# Altium footprint library Power_Inductor.PcbLib: 13 footprints
Each footprint in its own frame and in the unit in brackets; x right, y up, seen from the top. Pads: shape width x height; smd on the part's side, far side on the other; paste and mask are expansions set on the pad; w line width, h text height; cw(c..) or ccw(c..) is an arc to the next point about the centre after c.
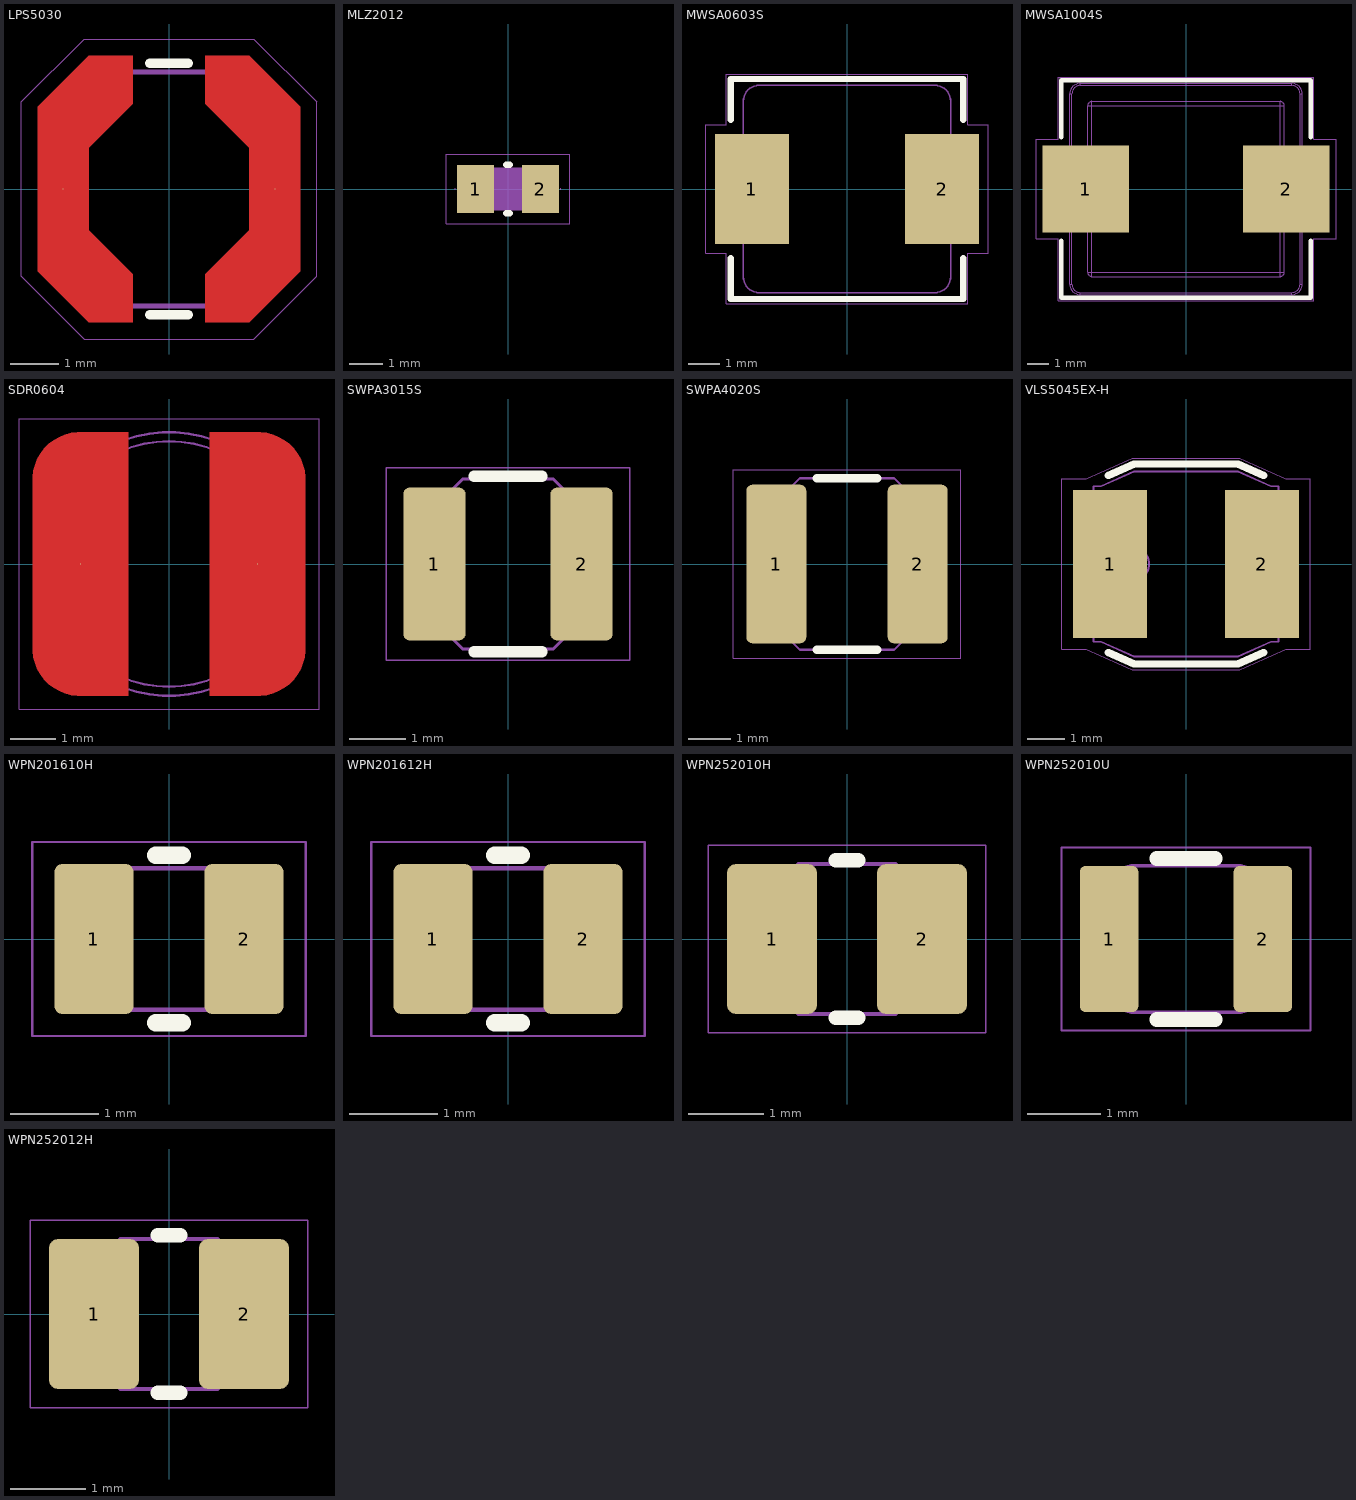
[diagram p0: the footprints below, top view; thin cyan lines are the x and y axes]

## LPS5030 [mil]
height 118.11
pads (2):
  round 1 smd paste-196.85 mask+3.94: 1(-86.22,0) 2(86.22,0)
Top Layer:
  region: -106.69,-66.93 -65.35,-108.27 -29.53,-108.27 -29.53,-69.29 -65.35,-33.46 -65.35,33.46 -29.53,69.29 -29.53,108.27 -65.35,108.27 -106.69,66.93
  region: 106.69,-66.93 65.35,-108.27 29.53,-108.27 29.53,-69.29 65.35,-33.46 65.35,33.46 29.53,69.29 29.53,108.27 65.35,108.27 106.69,66.93
Top Overlay:
  lines w7.87: -15.75,-102.36 15.75,-102.36 ; -15.75,102.36 15.75,102.36
Top Paste:
  rectangle: -104.33,-25.59 -68.9,25.59
  region: 104.33,25.59 68.9,25.59 68.9,-25.59 104.33,-25.59
  region: -66.93,35.43 -104.33,35.43 -104.33,66.93 -85.63,85.63 -51.18,51.18
  region: -78.74,92.52 -64.96,106.3 -31.5,106.3 -31.5,70.87 -44.29,58.07
  region: -66.93,-35.43 -104.33,-35.43 -104.33,-66.93 -85.63,-85.63 -51.18,-51.18
  region: -78.74,-92.52 -64.96,-106.3 -31.5,-106.3 -31.5,-70.87 -44.29,-58.07
  region: 66.93,35.43 104.33,35.43 104.33,66.93 85.63,85.63 51.18,51.18
  region: 78.74,92.52 64.96,106.3 31.5,106.3 31.5,70.87 44.29,58.07
  region: 66.93,-35.43 104.33,-35.43 104.33,-66.93 85.63,-85.63 51.18,-51.18
  region: 78.74,-92.52 64.96,-106.3 31.5,-106.3 31.5,-70.87 44.29,-58.07
Top Courtyard:
  lines w0.98: -120.08,-70.87 -120.08,70.87 -68.9,122.05 68.9,122.05 120.08,70.87 120.08,-70.87 68.9,-122.05 -68.9,-122.05 -120.08,-70.87
Top Assembly:
  lines w1.97: -96.06,-66.54 -66.54,-96.06 66.54,-96.06 96.06,-66.54 96.06,66.54 66.54,96.06 -66.54,96.06 -96.06,66.54 -96.06,-66.54 ; -94.09,-65.72 -65.72,-94.09 65.72,-94.09 94.09,-65.72 94.09,65.72 65.72,94.09 -65.72,94.09 -94.09,65.72 -94.09,-65.72 ; -74.82,-5.91 cw(c-74.82,0) -74.82,5.91 cw(c-74.82,0) -74.82,-5.91
  text ".Designator" at -133.01,-13.35 h59.06
3D body "Coilcraft-LPS5030.x_t": height 119.29, standoff 1.18, extent -96.06,-96.06 96.06,96.06

## MLZ2012 [mm] "Chip Inductor MLZ2012series"
height 0.85
pads (2):
  rect 1.11x1.45 smd: 1(-0.975,0) 2(0.975,0)
Top Overlay:
  lines w0.2: -0.05,-0.725 0.05,-0.725 ; -0.05,0.725 0.05,0.725
Top Courtyard:
  lines w0.025: -1.85,-1.05 1.85,-1.05 1.85,1.05 -1.85,1.05 -1.85,-1.05
Top Assembly:
  lines w0.01: -1.59,-0.025 -1.59,0.025 ; 1.59,-0.025 1.59,0.025
  lines w0.05: -0.6,-0.625 ccw(c-2.503,0) -0.6,0.625 ; -0.554,-0.624 0.554,-0.624 ; -0.554,0.624 0.554,0.624 ; -0.55,-0.625 -0.55,-0.475 ; -0.55,0.475 -0.55,0.625 ; -0.45,-0.625 -0.45,0.625 ; -0.4,-0.625 -0.4,0.625 ; -0.35,-0.625 -0.35,0.625 ; -0.3,-0.625 -0.3,0.625 ; -0.25,-0.625 -0.25,0.625 ; -0.2,-0.625 -0.2,0.625 ; -0.15,-0.625 -0.15,0.625 ; -0.1,-0.625 -0.1,0.625 ; -0.05,-0.625 -0.05,0.625 ; 0,-0.625 0,0.625 ; 0.05,-0.625 0.05,0.625 ; 0.1,-0.625 0.1,0.625 ; 0.15,-0.625 0.15,0.625 ; 0.2,-0.625 0.2,0.625 ; 0.25,-0.625 0.25,0.625 ; 0.3,-0.625 0.3,0.625 ; 0.35,-0.625 0.35,0.625 ; 0.4,-0.625 0.4,0.625 ; 0.45,-0.625 0.45,0.625 ; 0.55,-0.625 0.55,-0.475 ; 0.55,0.475 0.55,0.625 ; 0.6,-0.625 cw(c2.503,0) 0.6,0.625 ; -1,-0.525 ccw(c-0.9,-0.525) -0.9,-0.625 -0.5,-0.625 -0.5,0.625 -0.9,0.625 ccw(c-0.9,0.525) -1,0.525 -1,-0.525 ; 0.5,-0.625 0.5,0.625 0.9,0.625 cw(c0.9,0.525) 1,0.525 1,-0.525 cw(c0.9,-0.525) 0.9,-0.625 0.5,-0.625
  text ".Designator" at -2.252,1.174 h1
3D body "MLZ2012.x_t": height 0.85, standoff 0, extent -1,-0.625 1,0.625

## MWSA0603S [mm]
pads (2):
  rect 2.35x3.5 smd paste-5: 1(-3.025,0) 2(3.025,0)
Top Overlay:
  lines w0.2: -3.7,-2.2 -3.7,-3.5 3.7,-3.5 3.7,-2.2 ; -3.7,2.2 -3.7,3.5 3.7,3.5 3.7,2.2
Top Paste:
  rectangle: 3.55,-1.7 4.15,-0.9
  rectangle: 2.75,-1.7 3.35,-0.9
  rectangle: 1.95,-1.7 2.55,-0.9
  region: 2.55,-0.7 2.55,-0.1 1.95,-0.1 1.95,-0.7
  region: 3.35,-0.7 3.35,-0.1 2.75,-0.1 2.75,-0.7
  region: 4.15,-0.7 4.15,-0.1 3.55,-0.1 3.55,-0.7
  region: 2.55,0.1 2.55,0.7 1.95,0.7 1.95,0.1
  region: 3.35,0.1 3.35,0.7 2.75,0.7 2.75,0.1
  region: 4.15,0.1 4.15,0.7 3.55,0.7 3.55,0.1
  region: 2.55,1.7 1.95,1.7 1.95,0.9 2.55,0.9
  region: 3.35,1.7 2.75,1.7 2.75,0.9 3.35,0.9
  region: 4.15,1.7 3.55,1.7 3.55,0.9 4.15,0.9
  region: -3.55,-0.9 -4.15,-0.9 -4.15,-1.7 -3.55,-1.7
  region: -2.75,-0.9 -3.35,-0.9 -3.35,-1.7 -2.75,-1.7
  region: -1.95,-0.9 -2.55,-0.9 -2.55,-1.7 -1.95,-1.7
  region: -1.95,-0.7 -1.95,-0.1 -2.55,-0.1 -2.55,-0.7
  region: -2.75,-0.7 -2.75,-0.1 -3.35,-0.1 -3.35,-0.7
  region: -3.55,-0.7 -3.55,-0.1 -4.15,-0.1 -4.15,-0.7
  region: -1.95,0.1 -1.95,0.7 -2.55,0.7 -2.55,0.1
  region: -2.75,0.1 -2.75,0.7 -3.35,0.7 -3.35,0.1
  region: -3.55,0.1 -3.55,0.7 -4.15,0.7 -4.15,0.1
  rectangle: -2.55,0.9 -1.95,1.7
  rectangle: -3.35,0.9 -2.75,1.7
  rectangle: -4.15,0.9 -3.55,1.7
Top Courtyard:
  lines w0.025: -4.5,-2.05 -3.85,-2.05 -3.85,-3.65 3.85,-3.65 3.85,-2.05 4.5,-2.05 4.5,2.05 3.85,2.05 3.85,3.65 -3.85,3.65 -3.85,2.05 -4.5,2.05 -4.5,-2.05
Top Assembly:
  lines w0.05: -3.3,-1.5 -3.5,-1.5 -3.5,-1.4 ; -3.3,-1.4 -3.5,-1.4 ; -3.3,-0.7 -3.5,-0.7 ; -3.3,-0.6 -3.5,-0.6 ; -3.3,-0.5 -3.5,-0.5 ; -3.3,0.5 -3.5,0.5 ; -3.3,0.6 -3.5,0.6 ; -3.3,0.7 -3.5,0.7 ; -3.3,1.4 -3.5,1.4 ; -3.3,1.5 -3.5,1.5 -3.5,1.4 ; 3.3,-1.5 3.5,-1.5 3.5,-1.4 ; 3.3,-1.4 3.5,-1.4 ; 3.3,-0.7 3.5,-0.7 ; 3.3,-0.6 3.5,-0.6 ; 3.3,-0.5 3.5,-0.5 ; 3.3,0.5 3.5,0.5 ; 3.3,0.6 3.5,0.6 ; 3.3,0.7 3.5,0.7 ; 3.3,1.4 3.5,1.4 ; 3.3,1.5 3.5,1.5 3.5,1.4 ; -3.5,-1.4 -3.5,-0.7 ; -3.5,-0.7 -3.5,-0.6 ; -3.5,-0.6 -3.5,-0.5 ; -3.5,-0.5 -3.5,0.5 ; -3.5,0.5 -3.5,0.6 ; -3.5,0.6 -3.5,0.7 ; -3.5,0.7 -3.5,1.4 ; 3.5,-1.4 3.5,-0.7 ; 3.5,-0.7 3.5,-0.6 ; 3.5,-0.6 3.5,-0.5 ; 3.5,-0.5 3.5,0.5 ; 3.5,0.5 3.5,0.6 ; 3.5,0.6 3.5,0.7 ; 3.5,0.7 3.5,1.4 ; -3.3,-2.8 ccw(c-2.8,-2.8) -2.8,-3.3 2.8,-3.3 ccw(c2.8,-2.8) 3.3,-2.8 3.3,2.8 ccw(c2.8,2.8) 2.8,3.3 -2.8,3.3 ccw(c-2.8,2.8) -3.3,2.8 -3.3,-2.8
  text ".Designator" at -4.511,-0.453 h2
3D body "MWSA0603S-R56MT.x_t": height 2.9, standoff 0, extent -3.5,-3.3 3.5,3.3

## MWSA1004S [mm]
pads (2):
  rect 4.1x4.1 smd paste-5: 1(-4.75,0) 2(4.75,0)
Top Overlay:
  lines w0.2: -5.9,-2.45 -5.9,-5.15 5.9,-5.15 5.9,-2.45 ; -5.9,2.45 -5.9,5.15 5.9,5.15 5.9,2.45
Top Paste:
  region: 3.65,-1.9 3.65,-1.1 2.85,-1.1 2.85,-1.9
  region: 4.65,-1.9 4.65,-1.1 3.85,-1.1 3.85,-1.9
  region: 5.65,-1.9 5.65,-1.1 4.85,-1.1 4.85,-1.9
  region: 6.65,-1.9 6.65,-1.1 5.85,-1.1 5.85,-1.9
  region: 3.65,-0.9 3.65,-0.1 2.85,-0.1 2.85,-0.9
  region: 4.65,-0.9 4.65,-0.1 3.85,-0.1 3.85,-0.9
  region: 5.65,-0.9 5.65,-0.1 4.85,-0.1 4.85,-0.9
  region: 6.65,-0.9 6.65,-0.1 5.85,-0.1 5.85,-0.9
  region: 3.65,0.1 3.65,0.9 2.85,0.9 2.85,0.1
  region: 4.65,0.1 4.65,0.9 3.85,0.9 3.85,0.1
  region: 5.65,0.1 5.65,0.9 4.85,0.9 4.85,0.1
  region: 6.65,0.1 6.65,0.9 5.85,0.9 5.85,0.1
  region: 3.65,1.1 3.65,1.9 2.85,1.9 2.85,1.1
  region: 4.65,1.1 4.65,1.9 3.85,1.9 3.85,1.1
  region: 5.65,1.1 5.65,1.9 4.85,1.9 4.85,1.1
  region: 6.65,1.1 6.65,1.9 5.85,1.9 5.85,1.1
  region: -2.85,-1.9 -2.85,-1.1 -3.65,-1.1 -3.65,-1.9
  region: -3.85,-1.9 -3.85,-1.1 -4.65,-1.1 -4.65,-1.9
  region: -4.85,-1.9 -4.85,-1.1 -5.65,-1.1 -5.65,-1.9
  region: -5.85,-1.9 -5.85,-1.1 -6.65,-1.1 -6.65,-1.9
  region: -2.85,-0.9 -2.85,-0.1 -3.65,-0.1 -3.65,-0.9
  region: -3.85,-0.9 -3.85,-0.1 -4.65,-0.1 -4.65,-0.9
  region: -4.85,-0.9 -4.85,-0.1 -5.65,-0.1 -5.65,-0.9
  region: -5.85,-0.9 -5.85,-0.1 -6.65,-0.1 -6.65,-0.9
  region: -2.85,0.1 -2.85,0.9 -3.65,0.9 -3.65,0.1
  region: -3.85,0.1 -3.85,0.9 -4.65,0.9 -4.65,0.1
  region: -4.85,0.1 -4.85,0.9 -5.65,0.9 -5.65,0.1
  region: -5.85,0.1 -5.85,0.9 -6.65,0.9 -6.65,0.1
  region: -2.85,1.1 -2.85,1.9 -3.65,1.9 -3.65,1.1
  region: -3.85,1.1 -3.85,1.9 -4.65,1.9 -4.65,1.1
  region: -4.85,1.1 -4.85,1.9 -5.65,1.9 -5.65,1.1
  region: -5.85,1.1 -5.85,1.9 -6.65,1.9 -6.65,1.1
Top Courtyard:
  lines w0.025: -7.1,-2.35 -7.1,2.35 -6.05,2.35 -6.05,5.3 6.05,5.3 6.05,2.35 7.1,2.35 7.1,-2.35 6.05,-2.35 6.05,-5.3 -6.05,-5.3 -6.05,-2.35 -7.1,-2.35
Top Assembly:
  lines w0.05: -5.5,-1.5 -5.75,-1.5 -5.75,1.5 -5.5,1.5 ; 5.5,-1.5 5.75,-1.5 5.75,1.5 5.5,1.5 ; -5.5,-4.5 ccw(c-5,-4.5) -5,-5 ; -5.5,-4.5 -5.4,-4.5 ; -5.5,-4.5 -5.5,4.5 ; -5.5,4.5 cw(c-5,4.5) -5,5 ; -5.5,4.5 -5.4,4.5 ; -5.4,-4.5 ccw(c-5,-4.5) -5,-4.9 ; -5.4,-4.5 -5.4,4.5 ; -5.4,4.5 cw(c-5,4.5) -5,4.9 ; -5,-5 5,-5 ; -5,-5 -5,-4.9 ; -5,-4.9 5,-4.9 ; -5,4.9 -5,5 ; -5,4.9 5,4.9 ; -5,5 5,5 ; -4.65,-3.95 ccw(c-4.45,-3.95) -4.45,-4.15 ; -4.65,-3.95 4.65,-3.95 ; -4.65,-3.95 -4.65,3.95 ; -4.65,3.95 cw(c-4.45,3.95) -4.45,4.15 ; -4.65,3.95 4.65,3.95 ; -4.45,-4.15 4.45,-4.15 ; -4.45,-4.15 -4.45,4.15 ; -4.45,4.15 4.45,4.15 ; 4.45,-4.15 ccw(c4.45,-3.95) 4.65,-3.95 ; 4.45,-4.15 4.45,4.15 ; 4.45,4.15 cw(c4.45,3.95) 4.65,3.95 ; 4.65,-3.95 4.65,3.95 ; 5,-5 ccw(c5,-4.5) 5.5,-4.5 ; 5,-5 5,-4.9 ; 5,-4.9 ccw(c5,-4.5) 5.4,-4.5 ; 5,4.9 cw(c5,4.5) 5.4,4.5 ; 5,4.9 5,5 ; 5,5 cw(c5,4.5) 5.5,4.5 ; 5.4,-4.5 5.5,-4.5 ; 5.4,-4.5 5.4,4.5 ; 5.4,4.5 5.5,4.5 ; 5.5,-4.5 5.5,4.5
  text ".Designator" at -6.763,-0.679 h3
3D body "MWSA1004S.x_t": height 3.9, standoff 0.05, extent -5.75,-5 5.75,5

## SDR0604 [mil] "Inductors SDR0604 series"
height 188.98
pads (2):
  round 1 smd paste-196.85: 1(-76.77,0) 2(76.77,0)
Top Layer:
  region: -118.11,72.83 -118.11,75.54 -117.4,80.92 -116,86.15 -113.93,91.16 -111.22,95.85 -107.92,100.15 -104.09,103.98 -99.79,107.28 -95.09,109.99 -90.09,112.06 -84.85,113.47 -79.48,114.17 -76.77,114.17 -35.43,114.17 -35.43,72.83 -35.43,-72.83 -35.43,-114.17 -76.77,-114.17 -79.48,-114.17 -84.85,-113.47 -90.09,-112.06 -95.09,-109.99 -99.79,-107.28 -104.09,-103.98 -107.92,-100.15 -111.22,-95.85 -113.93,-91.16 -116,-86.15 -117.4,-80.92 -118.11,-75.54 -118.11,-72.84
  region: 118.11,72.83 118.11,75.54 117.4,80.92 116,86.15 113.93,91.16 111.22,95.85 107.92,100.15 104.09,103.98 99.79,107.28 95.09,109.99 90.09,112.06 84.85,113.47 79.48,114.17 76.77,114.17 35.43,114.17 35.43,72.83 35.43,-72.83 35.43,-114.17 76.77,-114.17 79.48,-114.17 84.85,-113.47 90.09,-112.06 95.09,-109.99 99.79,-107.28 104.09,-103.98 107.92,-100.15 111.22,-95.85 113.93,-91.16 116,-86.15 117.4,-80.92 118.11,-75.54 118.11,-72.84
Top Paste:
  region: -37.4,84.65 -37.4,104.33 -57.09,104.33 -57.09,84.65
  region: -37.4,57.09 -37.4,76.77 -57.09,76.77 -57.09,57.09
  region: -64.96,70.87 -64.96,90.55 -84.65,90.55 -84.65,70.87
  region: -37.4,29.53 -37.4,49.21 -57.09,49.21 -57.09,29.53
  region: -37.4,1.97 -37.4,21.65 -57.09,21.65 -57.09,1.97
  region: -37.4,-25.59 -37.4,-5.91 -57.09,-5.91 -57.09,-25.59
  region: -37.4,-53.15 -37.4,-33.46 -57.09,-33.46 -57.09,-53.15
  region: -37.4,-80.71 -37.4,-61.02 -57.09,-61.02 -57.09,-80.71
  region: -37.4,-108.27 -37.4,-88.58 -57.09,-88.58 -57.09,-108.27
  region: -64.96,43.31 -64.96,62.99 -84.65,62.99 -84.65,43.31
  region: -64.96,15.75 -64.96,35.43 -84.65,35.43 -84.65,15.75
  region: -64.96,-11.81 -64.96,7.87 -84.65,7.87 -84.65,-11.81
  region: -64.96,-39.37 -64.96,-19.69 -84.65,-19.69 -84.65,-39.37
  region: -64.96,-66.93 -64.96,-47.24 -84.65,-47.24 -84.65,-66.93
  region: -64.96,-94.49 -64.96,-74.8 -84.65,-74.8 -84.65,-94.49
  region: -94.49,70.87 -94.49,90.55 -114.17,90.55 -114.17,70.87
  region: -94.49,43.31 -94.49,62.99 -114.17,62.99 -114.17,43.31
  region: -94.49,15.75 -94.49,35.43 -114.17,35.43 -114.17,15.75
  region: -94.49,-11.81 -94.49,7.87 -114.17,7.87 -114.17,-11.81
  region: -94.49,-39.37 -94.49,-19.69 -114.17,-19.69 -114.17,-39.37
  region: -94.49,-66.93 -94.49,-47.24 -114.17,-47.24 -114.17,-66.93
  region: -94.49,-94.49 -94.49,-74.8 -114.17,-74.8 -114.17,-94.49
  region: 57.09,84.65 57.09,104.33 37.4,104.33 37.4,84.65
  region: 57.09,57.09 57.09,76.77 37.4,76.77 37.4,57.09
  region: 84.65,70.87 84.65,90.55 64.96,90.55 64.96,70.87
  region: 57.09,29.53 57.09,49.21 37.4,49.21 37.4,29.53
  region: 57.09,1.97 57.09,21.65 37.4,21.65 37.4,1.97
  region: 57.09,-25.59 57.09,-5.91 37.4,-5.91 37.4,-25.59
  region: 57.09,-53.15 57.09,-33.46 37.4,-33.46 37.4,-53.15
  region: 57.09,-80.71 57.09,-61.02 37.4,-61.02 37.4,-80.71
  region: 57.09,-108.27 57.09,-88.58 37.4,-88.58 37.4,-108.27
  region: 84.65,43.31 84.65,62.99 64.96,62.99 64.96,43.31
  region: 84.65,15.75 84.65,35.43 64.96,35.43 64.96,15.75
  region: 84.65,-11.81 84.65,7.87 64.96,7.87 64.96,-11.81
  region: 84.65,-39.37 84.65,-19.69 64.96,-19.69 64.96,-39.37
  region: 84.65,-66.93 84.65,-47.24 64.96,-47.24 64.96,-66.93
  region: 84.65,-94.49 84.65,-74.8 64.96,-74.8 64.96,-94.49
  region: 114.17,70.87 114.17,90.55 94.49,90.55 94.49,70.87
  region: 114.17,43.31 114.17,62.99 94.49,62.99 94.49,43.31
  region: 114.17,15.75 114.17,35.43 94.49,35.43 94.49,15.75
  region: 114.17,-11.81 114.17,7.87 94.49,7.87 94.49,-11.81
  region: 114.17,-39.37 114.17,-19.69 94.49,-19.69 94.49,-39.37
  region: 114.17,-66.93 114.17,-47.24 94.49,-47.24 94.49,-66.93
  region: 114.17,-94.49 114.17,-74.8 94.49,-74.8 94.49,-94.49
Top Courtyard:
  lines w0.98: -129.92,-125.98 -129.92,125.98 129.92,125.98 129.92,-125.98 -129.92,-125.98
Top Assembly:
  circle w1.97: c-70.86,0 r12.8
  lines w1.97: -113.29,-14.31 -105.34,-14.25 ; 113.29,-14.31 105.34,-14.25 ; -113.29,14.19 ccw(c0,0) -114.17,0 ccw(c0,0) -113.29,-14.19 ccw(c0,0) 113.29,-14.19 ccw(c0,0) 114.18,0 ccw(c0.01,0) 113.29,14.19 ; -113.29,14.19 cw(c0,0) 113.29,14.19 ; -113.29,14.19 -105.34,14.25 ; -105.34,-14.25 ccw(c-106.3,0) -105.34,14.25 ; -105.34,-14.25 ccw(c0,0) 105.34,-14.25 ; -105.34,14.25 cw(c0,0) 105.34,14.25 ; 105.34,-14.25 cw(c106.3,0) 105.34,14.25 ; 105.34,14.25 113.29,14.19
  text ".Designator" at -150.03,-17.82 h78.74
3D body "SDR0604-151KL.x_t": height 188.98, standoff 0, extent -114.17,-114.17 114.18,114.18

## SWPA3015S [mm]
height 2
pads (2):
  rrect20% 1.1x2.7 smd paste-5: 1(-1.3,0) 2(1.3,0)
Top Overlay:
  lines w0.2: -0.6,-1.55 0.6,-1.55 ; -0.6,1.55 0.6,1.55
Top Paste:
  region: 1.2,-1.3 1.2,-0.8 0.75,-0.8 0.75,-1.3
  region: 1.85,-1.3 1.85,-0.8 1.4,-0.8 1.4,-1.3
  region: 1.2,-0.6 1.2,-0.1 0.75,-0.1 0.75,-0.6
  region: 1.85,-0.6 1.85,-0.1 1.4,-0.1 1.4,-0.6
  region: 1.2,0.1 1.2,0.6 0.75,0.6 0.75,0.1
  region: 1.85,0.1 1.85,0.6 1.4,0.6 1.4,0.1
  region: 1.85,0.8 1.85,1.3 1.4,1.3 1.4,0.8
  region: 1.2,0.8 1.2,1.3 0.75,1.3 0.75,0.8
  region: -0.75,-1.3 -0.75,-0.8 -1.2,-0.8 -1.2,-1.3
  region: -1.4,-1.3 -1.4,-0.8 -1.85,-0.8 -1.85,-1.3
  region: -0.75,-0.6 -0.75,-0.1 -1.2,-0.1 -1.2,-0.6
  region: -1.4,-0.6 -1.4,-0.1 -1.85,-0.1 -1.85,-0.6
  region: -0.75,0.1 -0.75,0.6 -1.2,0.6 -1.2,0.1
  region: -1.4,0.1 -1.4,0.6 -1.85,0.6 -1.85,0.1
  region: -1.4,0.8 -1.4,1.3 -1.85,1.3 -1.85,0.8
  region: -0.75,0.8 -0.75,1.3 -1.2,1.3 -1.2,0.8
Top Courtyard:
  lines w0.025: -2.15,-1.7 2.15,-1.7 2.15,1.7 -2.15,1.7 -2.15,-1.7
Top Assembly:
  lines w0.05: -1.4,-0.377 cw(c0,0) -1.4,0.377 ; -1.05,-1.25 -1.4,-1.25 cw(c-1.4,-1.15) -1.5,-1.15 -1.5,1.15 cw(c-1.4,1.15) -1.4,1.25 -1.05,1.25 ; 1.05,-1.25 1.4,-1.25 ccw(c1.4,-1.15) 1.5,-1.15 1.5,1.15 ccw(c1.4,1.15) 1.4,1.25 1.05,1.25 ; 1.4,-0.377 ccw(c0,0) 1.45,0 ccw(c0,0) 1.4,0.377 ; -1.4,-0.9 -1.4,0.9 -0.8,1.5 0.8,1.5 1.4,0.9 1.4,-0.9 0.8,-1.5 -0.8,-1.5 -1.4,-0.9
  text ".Designator" at -4.511,-0.453 h2
3D body "SWPA3015S.x_t": height 1.52, standoff 0, extent -1.5,-1.5 1.5,1.5

## SWPA4020S [mm]
height 2
pads (2):
  rrect20% 1.4x3.7 smd paste-5: 1(-1.65,0) 2(1.65,0)
Top Overlay:
  lines w0.2: -0.7,-2 0.7,-2 ; -0.7,2 0.7,2
Top Paste:
  region: -1.75,-1.65 -1.75,-1.15 -2.25,-1.15 -2.25,-1.65
  region: -1.05,-1.65 -1.05,-1.15 -1.55,-1.15 -1.55,-1.65
  region: -1.75,-0.95 -1.75,-0.45 -2.25,-0.45 -2.25,-0.95
  region: -1.05,-0.95 -1.05,-0.45 -1.55,-0.45 -1.55,-0.95
  region: -1.75,-0.25 -1.75,0.25 -2.25,0.25 -2.25,-0.25
  region: -1.05,-0.25 -1.05,0.25 -1.55,0.25 -1.55,-0.25
  region: -1.75,0.45 -1.75,0.95 -2.25,0.95 -2.25,0.45
  region: -1.05,0.45 -1.05,0.95 -1.55,0.95 -1.55,0.45
  region: -1.75,1.15 -1.75,1.65 -2.25,1.65 -2.25,1.15
  region: -1.05,1.15 -1.05,1.65 -1.55,1.65 -1.55,1.15
  region: 2.25,-1.65 2.25,-1.15 1.75,-1.15 1.75,-1.65
  region: 1.55,-1.65 1.55,-1.15 1.05,-1.15 1.05,-1.65
  region: 2.25,-0.95 2.25,-0.45 1.75,-0.45 1.75,-0.95
  region: 1.55,-0.95 1.55,-0.45 1.05,-0.45 1.05,-0.95
  region: 2.25,-0.25 2.25,0.25 1.75,0.25 1.75,-0.25
  region: 1.55,-0.25 1.55,0.25 1.05,0.25 1.05,-0.25
  region: 2.25,0.45 2.25,0.95 1.75,0.95 1.75,0.45
  region: 1.55,0.45 1.55,0.95 1.05,0.95 1.05,0.45
  region: 2.25,1.15 2.25,1.65 1.75,1.65 1.75,1.15
  region: 1.55,1.15 1.55,1.65 1.05,1.65 1.05,1.15
Top Courtyard:
  lines w0.025: -2.65,-2.2 2.65,-2.2 2.65,2.2 -2.65,2.2 -2.65,-2.2
Top Assembly:
  lines w0.05: -1.7,-1.054 cw(c0,0) -2,0 ; -1.7,1.054 ccw(c0,0) -2,0 ; -1.35,-1.75 -1.9,-1.75 cw(c-1.9,-1.65) -2,-1.65 -2,0 ; -1.35,1.75 -1.9,1.75 ccw(c-1.9,1.65) -2,1.65 -2,0 ; 1.35,-1.75 1.9,-1.75 ccw(c1.9,-1.65) 2,-1.65 2,0 ; 1.35,1.75 1.9,1.75 cw(c1.9,1.65) 2,1.65 2,0 ; 1.7,-1.054 ccw(c0,0) 2,0 ; 1.7,1.054 cw(c0,0) 2,0 ; -1.7,-1.4 -1.1,-2 1.1,-2 1.7,-1.4 1.7,1.4 1.1,2 -1.1,2 -1.7,1.4 -1.7,-1.4
  text ".Designator" at -4.511,-0.453 h2
3D body "SWPA4020S.x_t": height 2, standoff 0, extent -2,-2 2,2

## VLS5045EX-H [mm] "Inductors VLS-EX-H series"
height 4.5
pads (2):
  rect 2x4 smd paste-5: 1(-2.05,0) 2(2.05,0)
Top Overlay:
  lines w0.2: -2.096,-2.391 -1.4,-2.7 1.4,-2.7 2.096,-2.391 ; -2.096,2.391 -1.4,2.7 1.4,2.7 2.096,2.391
Top Paste:
  region: 2.95,-1.9 2.95,-1.4 2.45,-1.4 2.45,-1.9
  region: 2.95,1.4 2.95,1.9 2.45,1.9 2.45,1.4
  region: 2.95,0.75 2.95,1.25 2.45,1.25 2.45,0.75
  region: 2.95,0.1 2.95,0.6 2.45,0.6 2.45,0.1
  region: 2.95,-0.6 2.95,-0.1 2.45,-0.1 2.45,-0.6
  region: 2.95,-1.25 2.95,-0.75 2.45,-0.75 2.45,-1.25
  region: 2.3,-1.9 2.3,-1.4 1.8,-1.4 1.8,-1.9
  region: 1.65,-1.9 1.65,-1.4 1.15,-1.4 1.15,-1.9
  region: 1.65,1.4 1.65,1.9 1.15,1.9 1.15,1.4
  region: 2.3,1.4 2.3,1.9 1.8,1.9 1.8,1.4
  region: 1.65,0.75 1.65,1.25 1.15,1.25 1.15,0.75
  region: 2.3,0.75 2.3,1.25 1.8,1.25 1.8,0.75
  region: 2.3,0.1 2.3,0.6 1.8,0.6 1.8,0.1
  region: 1.65,0.1 1.65,0.6 1.15,0.6 1.15,0.1
  region: 2.3,-0.6 2.3,-0.1 1.8,-0.1 1.8,-0.6
  region: 1.65,-0.6 1.65,-0.1 1.15,-0.1 1.15,-0.6
  region: 2.3,-1.25 2.3,-0.75 1.8,-0.75 1.8,-1.25
  region: 1.65,-1.25 1.65,-0.75 1.15,-0.75 1.15,-1.25
  region: -2.45,-1.9 -2.45,-1.4 -2.95,-1.4 -2.95,-1.9
  region: -2.45,1.4 -2.45,1.9 -2.95,1.9 -2.95,1.4
  region: -2.45,0.75 -2.45,1.25 -2.95,1.25 -2.95,0.75
  region: -2.45,0.1 -2.45,0.6 -2.95,0.6 -2.95,0.1
  region: -2.45,-0.6 -2.45,-0.1 -2.95,-0.1 -2.95,-0.6
  region: -2.45,-1.25 -2.45,-0.75 -2.95,-0.75 -2.95,-1.25
  region: -1.8,-1.9 -1.8,-1.4 -2.3,-1.4 -2.3,-1.9
  region: -1.15,-1.9 -1.15,-1.4 -1.65,-1.4 -1.65,-1.9
  region: -1.15,1.4 -1.15,1.9 -1.65,1.9 -1.65,1.4
  region: -1.8,1.4 -1.8,1.9 -2.3,1.9 -2.3,1.4
  region: -1.15,0.75 -1.15,1.25 -1.65,1.25 -1.65,0.75
  region: -1.8,0.75 -1.8,1.25 -2.3,1.25 -2.3,0.75
  region: -1.8,0.1 -1.8,0.6 -2.3,0.6 -2.3,0.1
  region: -1.15,0.1 -1.15,0.6 -1.65,0.6 -1.65,0.1
  region: -1.8,-0.6 -1.8,-0.1 -2.3,-0.1 -2.3,-0.6
  region: -1.15,-0.6 -1.15,-0.1 -1.65,-0.1 -1.65,-0.6
  region: -1.8,-1.25 -1.8,-0.75 -2.3,-0.75 -2.3,-1.25
  region: -1.15,-1.25 -1.15,-0.75 -1.65,-0.75 -1.65,-1.25
Top Courtyard:
  lines w0.025: -3.35,-2.3 -2.7,-2.3 -1.45,-2.85 1.45,-2.85 2.7,-2.3 3.35,-2.3 3.35,2.3 2.7,2.3 1.45,2.85 -1.45,2.85 -2.7,2.3 -3.35,2.3 -3.35,-2.3
Top Assembly:
  lines w0.05: -2.5,-2.1 -2.5,2.1 -2.3,2.1 -1.4,2.5 1.4,2.5 2.3,2.1 2.5,2.1 2.5,-2.1 2.3,-2.1 1.4,-2.5 -1.4,-2.5 -2.3,-2.1 -2.5,-2.1 ; -1.5,-0.5 ccw(c-1.5,0) -1.5,0.5 ccw(c-1.5,0) -1.5,-0.5
  text ".Designator" at -3.811,-0.453 h2
3D body "vls5045ex.x_t": height 4.54, standoff 0.04, extent -2.5,-2.5 2.5,2.5

## WPN201610H [mm]
height 1
pads (2):
  rrect20% 0.9x1.7 smd paste-5: 1(-0.85,0) 2(0.85,0)
Top Overlay:
  lines w0.2: -0.15,-0.95 0.15,-0.95 ; -0.15,0.95 0.15,0.95
Top Paste:
  region: -0.45,-0.2 -0.45,0.2 -1.25,0.2 -1.25,-0.2
  region: -0.45,0.4 -0.45,0.8 -1.25,0.8 -1.25,0.4
  region: -0.45,-0.8 -0.45,-0.4 -1.25,-0.4 -1.25,-0.8
  region: 1.25,-0.2 1.25,0.2 0.45,0.2 0.45,-0.2
  region: 1.25,0.4 1.25,0.8 0.45,0.8 0.45,0.4
  region: 1.25,-0.8 1.25,-0.4 0.45,-0.4 0.45,-0.8
Top Courtyard:
  lines w0.025: -1.55,-1.1 -1.55,1.1 1.55,1.1 1.55,-1.1 -1.55,-1.1
Top Assembly:
  lines w0.05: -0.95,-0.7 -0.95,0.7 ; -0.85,-0.7 -0.85,0.7 ; -0.8,-0.7 -0.8,0.7 ; -0.75,-0.7 -0.75,0.7 ; -0.7,-0.7 -0.7,0.7 ; -0.65,-0.7 -0.65,0.7 ; -0.6,-0.7 -0.6,0.7 ; 0.6,-0.7 0.6,0.7 ; 0.65,-0.7 0.65,0.7 ; 0.7,-0.7 0.7,0.7 ; 0.75,-0.7 0.75,0.7 ; 0.8,-0.7 0.8,0.7 ; 0.85,-0.7 0.85,0.7 ; 0.95,-0.7 0.95,0.7 ; -0.9,-0.7 -1,-0.7 -1,0.7 -0.9,0.7 ; -0.9,-0.7 -0.641,-0.7 cw(c-0.641,-0.8) -0.571,-0.729 -0.529,-0.771 -0.5,-0.8 -0.459,-0.8 0.459,-0.8 0.5,-0.8 0.529,-0.771 0.571,-0.729 cw(c0.641,-0.8) 0.641,-0.7 0.9,-0.7 ; -0.9,-0.7 -0.9,0.7 ; -0.9,0.7 -0.641,0.7 ccw(c-0.641,0.8) -0.571,0.729 -0.529,0.771 -0.5,0.8 -0.459,0.8 0.459,0.8 0.5,0.8 0.529,0.771 0.571,0.729 ccw(c0.641,0.8) 0.641,0.7 0.9,0.7 ; 0.9,-0.7 1,-0.7 1,0.7 0.9,0.7 ; 0.9,-0.7 0.9,0.7
  text ".Designator" at -2.252,-0.226 h1
3D body "WPN201610H.x_t": height 1.03, standoff 0, extent -1,-0.8 1,0.8

## WPN201612H [mm]
height 1.2
pads (2):
  rrect20% 0.9x1.7 smd paste-5: 1(-0.85,0) 2(0.85,0)
Top Overlay:
  lines w0.2: -0.15,-0.95 0.15,-0.95 ; -0.15,0.95 0.15,0.95
Top Paste:
  region: -0.45,-0.2 -0.45,0.2 -1.25,0.2 -1.25,-0.2
  region: -0.45,0.4 -0.45,0.8 -1.25,0.8 -1.25,0.4
  region: -0.45,-0.8 -0.45,-0.4 -1.25,-0.4 -1.25,-0.8
  region: 1.25,-0.2 1.25,0.2 0.45,0.2 0.45,-0.2
  region: 1.25,0.4 1.25,0.8 0.45,0.8 0.45,0.4
  region: 1.25,-0.8 1.25,-0.4 0.45,-0.4 0.45,-0.8
Top Courtyard:
  lines w0.025: -1.55,-1.1 1.55,-1.1 1.55,1.1 -1.55,1.1 -1.55,-1.1
Top Assembly:
  lines w0.05: -0.95,-0.7 -0.95,0.7 ; -0.85,-0.7 -0.85,0.7 ; -0.8,-0.7 -0.8,0.7 ; -0.75,-0.7 -0.75,0.7 ; -0.7,-0.7 -0.7,0.7 ; -0.65,-0.7 -0.65,0.7 ; -0.6,-0.7 -0.6,0.7 ; 0.6,-0.7 0.6,0.7 ; 0.65,-0.7 0.65,0.7 ; 0.7,-0.7 0.7,0.7 ; 0.75,-0.7 0.75,0.7 ; 0.8,-0.7 0.8,0.7 ; 0.85,-0.7 0.85,0.7 ; 0.95,-0.7 0.95,0.7 ; -0.9,-0.7 -1,-0.7 -1,0.7 -0.9,0.7 ; -0.9,-0.7 -0.641,-0.7 cw(c-0.641,-0.8) -0.571,-0.729 -0.529,-0.771 -0.5,-0.8 -0.459,-0.8 0.459,-0.8 0.5,-0.8 0.529,-0.771 0.571,-0.729 cw(c0.641,-0.8) 0.641,-0.7 0.9,-0.7 ; -0.9,-0.7 -0.9,0.7 ; -0.9,0.7 -0.641,0.7 ccw(c-0.641,0.8) -0.571,0.729 -0.529,0.771 -0.5,0.8 -0.459,0.8 0.459,0.8 0.5,0.8 0.529,0.771 0.571,0.729 ccw(c0.641,0.8) 0.641,0.7 0.9,0.7 ; 0.9,-0.7 1,-0.7 1,0.7 0.9,0.7 ; 0.9,-0.7 0.9,0.7
  text ".Designator" at -2.252,-0.226 h1
3D body "WPN201612H.x_t": height 1.23, standoff 0, extent -1,-0.8 1,0.8

## WPN252010H [mm]
height 1
pads (2):
  rrect20% 1.2x2 smd paste-5: 1(-1,0) 2(1,0)
Top Overlay:
  lines w0.2: -0.15,-1.05 0.15,-1.05 ; -0.15,1.05 0.15,1.05
Top Paste:
  region: -1.1,0.45 -1.1,0.95 -1.6,0.95 -1.6,0.45
  region: -1.1,-0.25 -1.1,0.25 -1.6,0.25 -1.6,-0.25
  region: -1.1,-0.95 -1.1,-0.45 -1.6,-0.45 -1.6,-0.95
  region: -0.4,0.45 -0.4,0.95 -0.9,0.95 -0.9,0.45
  region: -0.4,-0.25 -0.4,0.25 -0.9,0.25 -0.9,-0.25
  region: -0.4,-0.95 -0.4,-0.45 -0.9,-0.45 -0.9,-0.95
  region: 1.6,0.45 1.6,0.95 1.1,0.95 1.1,0.45
  region: 1.6,-0.25 1.6,0.25 1.1,0.25 1.1,-0.25
  region: 1.6,-0.95 1.6,-0.45 1.1,-0.45 1.1,-0.95
  region: 0.9,0.45 0.9,0.95 0.4,0.95 0.4,0.45
  region: 0.9,-0.25 0.9,0.25 0.4,0.25 0.4,-0.25
  region: 0.9,-0.95 0.9,-0.45 0.4,-0.45 0.4,-0.95
Top Courtyard:
  lines w0.025: -1.85,-1.25 -1.85,1.25 1.85,1.25 1.85,-1.25 -1.85,-1.25
Top Assembly:
  lines w0.05: -1.2,-0.85 -1.2,0.85 ; -1.1,-0.85 -1.1,0.85 ; -1.05,-0.85 -1.05,0.85 ; -1,-0.85 -1,0.85 ; -0.95,-0.85 -0.95,0.85 ; -0.9,-0.85 -0.9,0.85 ; -0.85,-0.85 -0.85,0.85 ; -0.8,-0.85 -0.8,0.85 ; 0.8,-0.85 0.8,0.85 ; 0.85,-0.85 0.85,0.85 ; 0.9,-0.85 0.9,0.85 ; 0.95,-0.85 0.95,0.85 ; 1,-0.85 1,0.85 ; 1.05,-0.85 1.05,0.85 ; 1.1,-0.85 1.1,0.85 ; 1.2,-0.85 1.2,0.85 ; -1.15,-0.85 -1.25,-0.85 -1.25,0.85 -1.15,0.85 ; -1.15,-0.85 -0.841,-0.85 cw(c-0.841,-0.95) -0.771,-0.879 -0.679,-0.971 -0.65,-1 -0.459,-1 0.609,-1 0.65,-1 0.729,-0.921 0.771,-0.879 cw(c0.841,-0.95) 0.841,-0.85 1.15,-0.85 ; -1.15,-0.85 -1.15,0.85 ; -1.15,0.85 -0.841,0.85 ccw(c-0.841,0.95) -0.771,0.879 -0.679,0.971 -0.65,1 -0.459,1 0.609,1 0.65,1 0.729,0.921 0.771,0.879 ccw(c0.841,0.95) 0.841,0.85 1.15,0.85 ; 1.15,-0.85 1.25,-0.85 1.25,0.85 1.15,0.85 ; 1.15,-0.85 1.15,0.85
  text ".Designator" at -3.378,-0.339 h1.5
3D body "WPN252010H.x_t": height 1.03, standoff 0, extent -1.25,-1 1.25,1

## WPN252010U [mm]
height 1.2
pads (2):
  rrect20% 0.8x2 smd paste-5: 1(-1.05,0) 2(1.05,0)
Top Overlay:
  lines w0.2: -0.4,-1.1 0.4,-1.1 ; -0.4,1.1 0.4,1.1
Top Paste:
  region: -0.7,-0.95 -0.7,-0.45 -1.4,-0.45 -1.4,-0.95
  region: -0.7,0.45 -0.7,0.95 -1.4,0.95 -1.4,0.45
  region: -0.7,-0.25 -0.7,0.25 -1.4,0.25 -1.4,-0.25
  region: 1.4,-0.95 1.4,-0.45 0.7,-0.45 0.7,-0.95
  region: 1.4,0.45 1.4,0.95 0.7,0.95 0.7,0.45
  region: 1.4,-0.25 1.4,0.25 0.7,0.25 0.7,-0.25
Top Courtyard:
  lines w0.025: -1.7,-1.25 -1.7,1.25 1.7,1.25 1.7,-1.25 -1.7,-1.25
Top Assembly:
  lines w0.05: -1.2,-0.85 -1.2,0.85 ; -1.15,-0.88 -1.15,0.87 ; -1.1,-0.89 -1.1,0.89 ; -1.05,-0.91 -1.05,0.9 ; -1,-0.92 -1,0.92 ; -0.95,-0.93 -0.95,0.93 ; -0.9,-0.95 -0.9,0.95 ; 0.9,-0.95 0.9,0.95 ; 0.95,-0.93 0.95,0.93 ; 1,-0.92 1,0.92 ; 1.05,-0.91 1.05,0.9 ; 1.1,-0.89 1.1,0.89 ; 1.15,-0.88 1.15,0.87 ; 1.2,-0.85 1.2,0.85 ; -1.25,-0.85 -1.25,0.85 -0.75,1 0.75,1 1.25,0.85 1.25,-0.85 0.75,-1 -0.75,-1 -1.25,-0.85
  text ".Designator" at -3.378,-0.339 h1.5
3D body "WPN252010U.x_t": height 1, standoff -0.02, extent -1.25,-1 1.25,1

## WPN252012H [mm]
height 1.2
pads (2):
  rrect20% 1.2x2 smd paste-5: 1(-1,0) 2(1,0)
Top Overlay:
  lines w0.2: -0.15,-1.05 0.15,-1.05 ; -0.15,1.05 0.15,1.05
Top Paste:
  region: -1.1,0.45 -1.1,0.95 -1.6,0.95 -1.6,0.45
  region: -1.1,-0.25 -1.1,0.25 -1.6,0.25 -1.6,-0.25
  region: -1.1,-0.95 -1.1,-0.45 -1.6,-0.45 -1.6,-0.95
  region: -0.4,0.45 -0.4,0.95 -0.9,0.95 -0.9,0.45
  region: -0.4,-0.25 -0.4,0.25 -0.9,0.25 -0.9,-0.25
  region: -0.4,-0.95 -0.4,-0.45 -0.9,-0.45 -0.9,-0.95
  region: 1.6,0.45 1.6,0.95 1.1,0.95 1.1,0.45
  region: 1.6,-0.25 1.6,0.25 1.1,0.25 1.1,-0.25
  region: 1.6,-0.95 1.6,-0.45 1.1,-0.45 1.1,-0.95
  region: 0.9,0.45 0.9,0.95 0.4,0.95 0.4,0.45
  region: 0.9,-0.25 0.9,0.25 0.4,0.25 0.4,-0.25
  region: 0.9,-0.95 0.9,-0.45 0.4,-0.45 0.4,-0.95
Top Courtyard:
  lines w0.025: -1.85,-1.25 -1.85,1.25 1.85,1.25 1.85,-1.25 -1.85,-1.25
Top Assembly:
  lines w0.05: -1.2,-0.85 -1.2,0.85 ; -1.1,-0.85 -1.1,0.85 ; -1.05,-0.85 -1.05,0.85 ; -1,-0.85 -1,0.85 ; -0.95,-0.85 -0.95,0.85 ; -0.9,-0.85 -0.9,0.85 ; -0.85,-0.85 -0.85,0.85 ; -0.8,-0.85 -0.8,0.85 ; 0.8,-0.85 0.8,0.85 ; 0.85,-0.85 0.85,0.85 ; 0.9,-0.85 0.9,0.85 ; 0.95,-0.85 0.95,0.85 ; 1,-0.85 1,0.85 ; 1.05,-0.85 1.05,0.85 ; 1.1,-0.85 1.1,0.85 ; 1.2,-0.85 1.2,0.85 ; -1.15,-0.85 -1.15,0.85 ; -1.15,-0.85 -0.841,-0.85 cw(c-0.841,-0.95) -0.771,-0.879 -0.679,-0.971 -0.65,-1 -0.459,-1 0.609,-1 0.65,-1 0.729,-0.921 0.771,-0.879 cw(c0.841,-0.95) 0.841,-0.85 1.15,-0.85 ; -1.15,-0.85 -1.25,-0.85 -1.25,0.85 -1.15,0.85 ; -1.15,0.85 -0.841,0.85 ccw(c-0.841,0.95) -0.771,0.879 -0.679,0.971 -0.65,1 -0.459,1 0.609,1 0.65,1 0.729,0.921 0.771,0.879 ccw(c0.841,0.95) 0.841,0.85 1.15,0.85 ; 1.15,-0.85 1.15,0.85 ; 1.15,-0.85 1.25,-0.85 1.25,0.85 1.15,0.85
  text ".Designator" at -3.378,-0.339 h1.5
3D body "WPN252012H.x_t": height 1.23, standoff 0, extent -1.25,-1 1.25,1